# Altium schematic symbol library CN PWR JACK.Schlib: 1 symbol
Pins are listed as number, name and electrical type; pins without a type are passive.

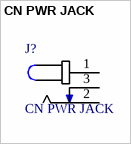
[diagram p0: symbol CN PWR JACK]

## CN PWR JACK
designator J?
1.3 x 4.2 mm, 2.0 A, Horizontal, Through Hole, Dc Power Jack Connector
pins: 1, 2, 3